# Altium footprint library SMB(DO-214AA)_S5.PcbLib: 1 footprints
Each footprint in its own frame and in the unit in brackets; x right, y up, seen from the top. Pads: shape width x height; smd on the part's side, far side on the other; paste and mask are expansions set on the pad; w line width, h text height; cw(c..) or ccw(c..) is an arc to the next point about the centre after c.
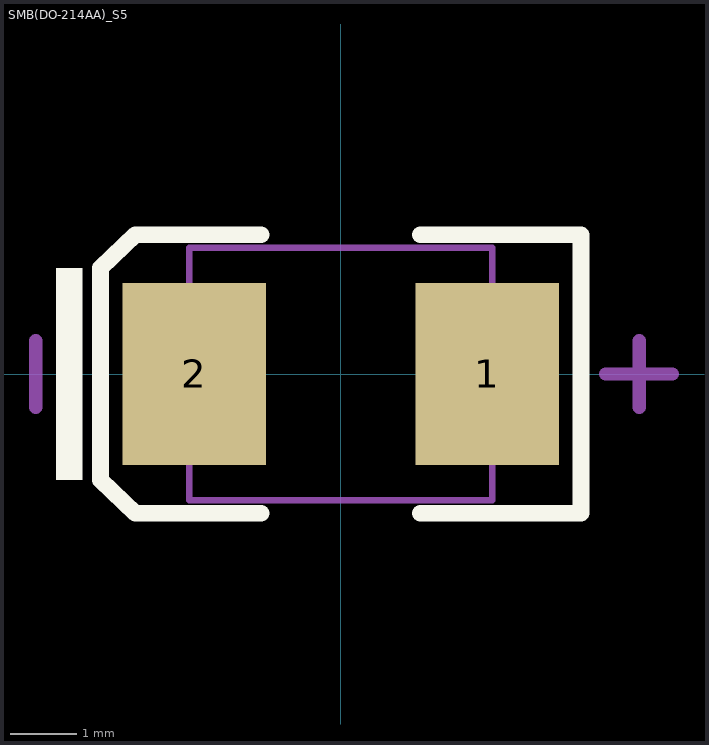
[diagram p0: the footprint, top view; thin cyan lines are the x and y axes]

## SMB(DO-214AA)_S5 [mil]
pads (2):
  rect 85x107.99 smd: 1(87.01,0) 2(-87.01,0)
Top Overlay:
  rectangle: -169.13,-62.99 -153.39,62.99
  lines w10: -47.24,-82.68 -122.05,-82.68 -142.72,-62.99 -142.72,62.99 -122.05,82.68 -47.24,82.68 ; 47.24,-82.68 142.72,-82.68 142.72,82.68 47.24,82.68
Mechanical 13:
  lines w3.94: -89.96,-75 89.96,-75 89.96,75 -89.96,75 -89.96,-75
Mechanical 15:
  lines w8: -181.1,-19.68 -181.1,19.68 ; 157.48,0 196.85,0 ; 177.17,-19.68 177.17,19.68